# EAGLE library part WL-SFTD_3535 (library WL-SFTD)
WL-SFTD SMT Full-color Top LED Diffused Characteristics Industry standard size 3535 Matte and non-reflective surface High reliability Low energy consumtion Low current requirement MSL 5a Water-resistant IPx6 Applications Outdoor Full-Color Video Screen Decorative lighting Entertainment LED display screen Indicator Backlight <https://www.we-online.com/catalog/media/o135756v209%20Gruppe_WL-SFTD_1616_2022_2828_2828.jpg> Details see: www.we-online.com/catalog/WL-SFTD <www.we-online.com/catalog/WL-SFTD/?utm_source=eagle_model&utm_medium=description_link&utm_campaign=eisos_eagle> Updated by Ella Wu 2022-06-20 2022 (C) Wurth Elektronik
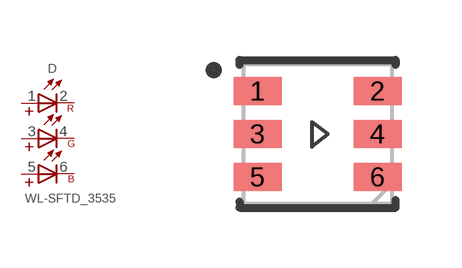
[diagram p1: symbol with the pads of WL-SFTD_3535; footprint WL-SFTD_3535]

Designator prefix D

## WL-SFTD_3535_150353M153300 (CHIP-TECHNOLOGY: AlInGaP + GaN; DATASHEET-URL: https://www.we-online.com/redexpert/spec/150353M153300?ae; DOMINANT-WAVELENGTH: 625nm@Red / 520nm@Green / 470nm@Blue; EMITTING-COLOR: Red & Green & Blue; FORWARD-VOLTAGE: 2V@Red / 3.2V@Green / 3.2V@Blue; LUMINOUS-INTENSITY: 800nm@Red / 1900mcd@Green / 400mcd@Blue; MOUNT: SMT; PART-NUMBER: 150353M153300; PEAK-WAVELENGTH: 635nm@Red / 515nm@Green / 465nm@Blue; VALUE: 150353M153300; VIEWING-ANGLE: 120°)  [WL-SFTD_3535]
1  1  pas
2  R  pas
3  3  pas
4  G  pas
5  5  pas
6  B  pas

## Footprint WL-SFTD_3535 (pad centres in mm)
WL-SFTD SMT Full-color Top LED Diffused Size: 3535, SMT, 6pins 3.7X3.5X2.8mm(LXWXH)
smd 1.2 x 0.7: 1 -1.5,1.075; 2 1.5,1.075; 3 -1.5,0; 4 1.5,0; 5 -1.5,-1.075; 6 1.5,-1.075